# Altium schematic symbol library GP-01.SchLib: 1 symbol
Pins are listed as number, name and electrical type; pins without a type are passive.

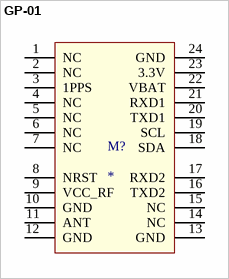
[diagram p0: symbol GP-01]

## GP-01
designator M?
footprint GP-01
pins: 1 NC, 2 NC, 3 1PPS, 4 NC, 5 NC, 6 NC, 7 NC, 8 NRST, 9 VCC_RF, 10 GND, 11 ANT, 12 GND, 13 GND, 14 NC, 15 NC, 16 TXD2, 17 RXD2, 18 SDA, 19 SCL, 20 TXD1, 21 RXD1, 22 VBAT, 23 3.3V, 24 GND